# Altium footprint library SamacSys.PcbLib: 17 footprints (part 2 of 2)
Each footprint in its own frame and in the unit in brackets; x right, y up, seen from the top. Pads: shape width x height; smd on the part's side, far side on the other; paste and mask are expansions set on the pad; w line width, h text height; cw(c..) or ccw(c..) is an arc to the next point about the centre after c.
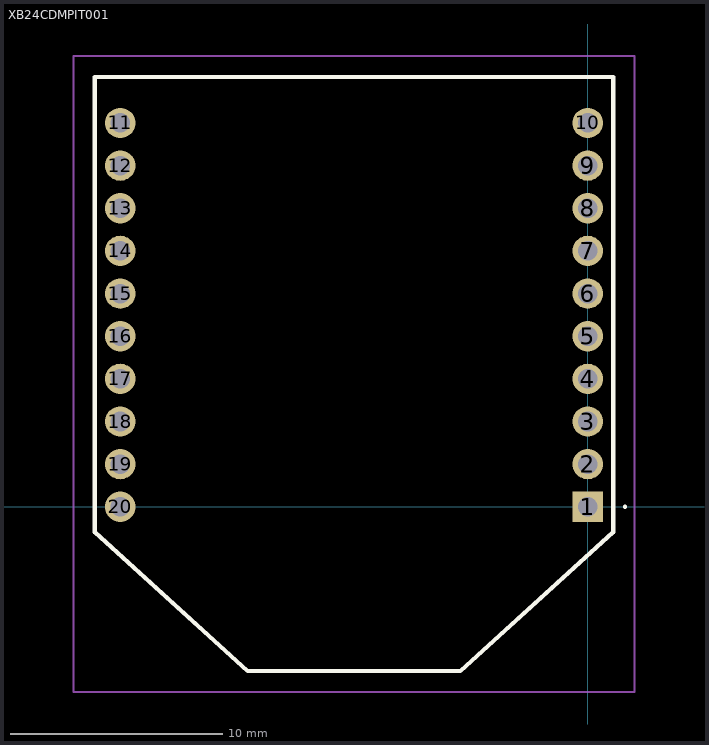
[diagram p1: the footprint, top view; thin cyan lines are the x and y axes]

## XB24CDMPIT001 [mm]
pads (20):
  rect 1.431x1.431 hole 0.92: 1(0,0)
  round 1.431 hole 0.92: 2(0,2.007) 3(0,4.013) 4(0,6.02) 5(0,8.026) 6(0,10.033) 7(0,12.04) 8(0,14.046) 9(0,16.053) 10(0,18.059) 11(-21.996,18.059) 12(-21.996,16.053) 13(-21.996,14.046) 14(-21.996,12.04) 15(-21.996,10.033) 16(-21.996,8.026) 17(-21.996,6.02) 18(-21.996,4.013) 19(-21.996,2.007) 20(-21.996,0)
Top Overlay:
  lines w0.1: 1.7,0 ccw(c1.75,0) 1.8,0 ccw(c1.75,0) 1.7,0
  lines w0.2: -23.19,-1.194 -23.19,20.218 1.194,20.218 1.194,-1.194 -5.998,-7.722 -10.998,-7.722 -15.998,-7.722 -23.19,-1.194
Mechanical 13:
  lines w0.1: -23.19,-1.194 -15.998,-7.722 -10.998,-7.722 -5.998,-7.722 1.194,-1.194 1.194,20.218 -23.19,20.218 -23.19,-1.194
Mechanical 15:
  lines w0.1: -24.19,-8.722 2.194,-8.722 2.194,21.218 -24.19,21.218 -24.19,-8.722
3D body "XB24CDMPIT-001.stp": height 3.66, standoff -5, extent -23.19,-7.722 1.194,20.218